# Altium schematic symbol library Oscillator.SchLib: 121 symbols (part 1 of 2)
Pins are listed as number, name and electrical type; pins without a type are passive.

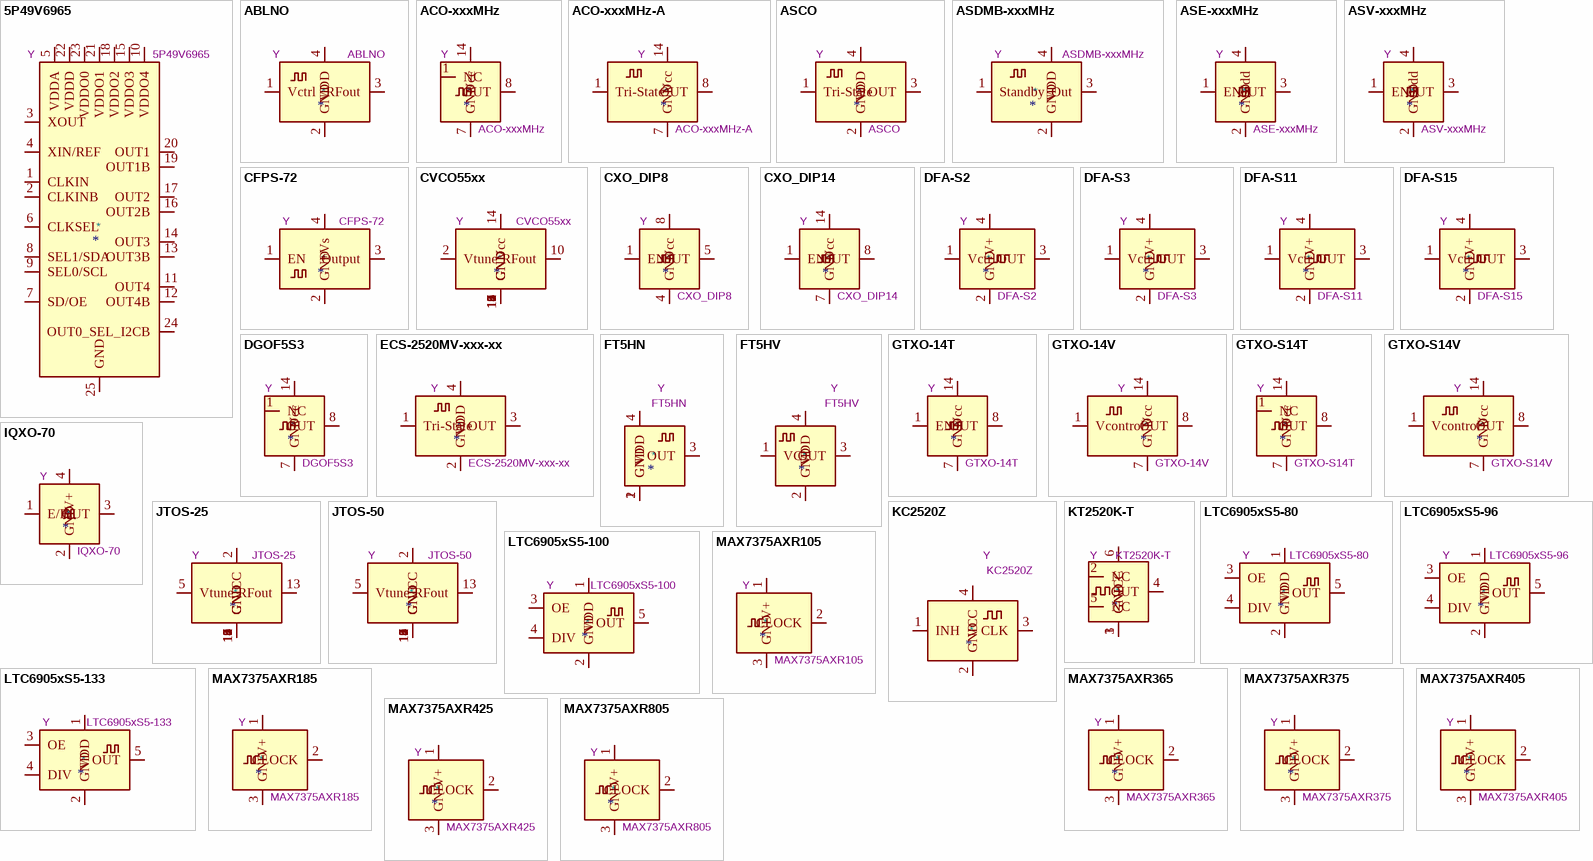
[diagram p0: symbols 5P49V6965 to MAX7375AXR805]

## 5P49V6965
designator *  value 5P49V6965  Reference: Y
Programmable Clock Generator, I2C interface, 1kHz-350MHz, QFN-24; ki_keywords: Low-noise PLL Reference Clock; ki_fp_filters: QFN*1EP*4x4mm*P0.5mm*; Footprint: Package_DFN_QFN:QFN-24-1EP_4x4mm_P0.5mm_EP2.8x2.8mm; Datasheet: https://www.renesas.com/us/en/document/dst/5p49v6965-datasheet; Description_: Programmable Clock Generator, I2C interface, 1kHz-350MHz, QFN-24
pins: 1 CLKIN, 2 CLKINB, 3 XOUT, 4 XIN/REF, 5 VDDA, 6 CLKSEL, 7 SD/OE, 8 SEL1/SDA, 9 SEL0/SCL, 10 VDDO4, 11 OUT4, 12 OUT4B, 13 OUT3B, 14 OUT3, 15 VDDO3, 16 OUT2B, 17 OUT2, 18 VDDO2, 19 OUT1B, 20 OUT1, 21 VDDO1, 22 VDDD, 23 VDDO0, 24 OUT0_SEL_I2CB, 25 GND

## ABLNO
designator *  value ABLNO  Reference: Y
LVCMOS Ultra Low Phase Noise XO / VCXO, Abracon ABLNO; ki_keywords: XO VCXO; ki_fp_filters: Oscillator*Abracon*ABLNO*; Footprint: Oscillator:Oscillator_SMD_Abracon_ABLNO; Datasheet: https://abracon.com/Precisiontiming/ABLNO.pdf; Description_: LVCMOS Ultra Low Phase Noise XO / VCXO, Abracon ABLNO
pins: 1 Vctrl, 2 GND, 3 RFout, 4 VDD

## ACO-xxxMHz
designator *  value ACO-xxxMHz  Reference: Y
HCMOS Crystal Clock Oscillator, DIP14-style metal package; ki_fp_filters: Oscillator*DIP*14*; Footprint: Oscillator:Oscillator_DIP-14; Datasheet: http://www.conwin.com/datasheets/cx/cx030.pdf; Description_: HCMOS Crystal Clock Oscillator, DIP14-style metal package; ki_keywords: Crystal Clock Oscillator
pins: 1 NC, 7 GND, 8 OUT, 14 Vcc

## ACO-xxxMHz-A
designator *  value ACO-xxxMHz-A  Reference: Y
HCMOS Crystal Clock Oscillator, DIP14-style metal package; ki_fp_filters: Oscillator*DIP*14*; Footprint: Oscillator:Oscillator_DIP-14; Datasheet: http://www.conwin.com/datasheets/cx/cx030.pdf; Description_: HCMOS Crystal Clock Oscillator, DIP14-style metal package; ki_keywords: Crystal Clock Oscillator
pins: 1 Tri-State, 7 GND, 8 OUT, 14 Vcc

## ASCO
designator *  value ASCO  Reference: Y
Crystal Clock Oscillator, Abracon ASCO; ki_fp_filters: Oscillator*Abracon*ASCO*1.6x1.2mm*; Footprint: Oscillator:Oscillator_SMD_Abracon_ASCO-4Pin_1.6x1.2mm; Datasheet: https://abracon.com/Oscillators/ASCO.pdf; Description_: Crystal Clock Oscillator, Abracon ASCO; ki_keywords: Crystal Clock Oscillator
pins: 1 Tri-State, 2 GND, 3 OUT, 4 VDD

## ASDMB-xxxMHz
designator *  value ASDMB-xxxMHz  Reference: Y
1.8-3.3V SMD Ultra Miniature Crystal Clock Oscillator, Abracon; ki_fp_filters: Oscillator*SMD*Abracon*ASDMB*2.5x2.0mm*; Footprint: Oscillator:Oscillator_SMD_Abracon_ASDMB-4Pin_2.5x2.0mm; Datasheet: https://abracon.com/Oscillators/ASDMB.pdf; Description_: 1.8-3.3V SMD Ultra Miniature Crystal Clock Oscillator, Abracon; ki_keywords: 1.8-3.3V SMD Ultra Miniature Crystal Clock Oscillator
pins: 1 Standby, 2 GND, 3 Out, 4 VDD

## ASE-xxxMHz
designator *  value ASE-xxxMHz  Reference: Y
3.3V CMOS SMD Crystal Clock Oscillator, Abracon; ki_fp_filters: Oscillator*SMD*Abracon*ASE*3.2x2.5mm*; Footprint: Oscillator:Oscillator_SMD_Abracon_ASE-4Pin_3.2x2.5mm; Datasheet: http://www.abracon.com/Oscillators/ASV.pdf; Description_: 3.3V CMOS SMD Crystal Clock Oscillator, Abracon; ki_keywords: 3.3V CMOS SMD Crystal Clock Oscillator
pins: 1 EN, 2 GND, 3 OUT, 4 Vdd

## ASV-xxxMHz
designator *  value ASV-xxxMHz  Reference: Y
3.3V HCMOS SMD Crystal Clock Oscillator, Abracon; ki_fp_filters: Oscillator*SMD*Abracon*ASV*7.0x5.1mm*; Footprint: Oscillator:Oscillator_SMD_Abracon_ASV-4Pin_7.0x5.1mm; Datasheet: http://www.abracon.com/Oscillators/ASV.pdf; Description_: 3.3V HCMOS SMD Crystal Clock Oscillator, Abracon; ki_keywords: 3.3V HCMOS SMD Crystal Clock Oscillator
pins: 1 EN, 2 GND, 3 OUT, 4 Vdd

## CFPS-72
designator *  value CFPS-72  Reference: Y
500kHz-100MHz 5V Crystal Oscillator, IQD CFPS-72; ki_keywords: XO; ki_fp_filters: Oscillator*SMD*IQD*IQXO70*7.5x5.0mm*; Footprint: Oscillator:Oscillator_SMD_IQD_IQXO70-4Pin_7.5x5.0mm; Datasheet: https://www.iqdfrequencyproducts.com/products/details/cfps-72-14-01.pdf; Description_: 500kHz-100MHz 5V Crystal Oscillator, IQD CFPS-72
pins: 1 EN, 2 GND, 3 Output, 4 +Vs

## CVCO55xx
designator *  value CVCO55xx  Reference: Y
Voltage Controlled Oscillator, Crystek, 0.50" SQ SMD; ki_keywords: VCXO VCO Crystek; ki_fp_filters: Mini?Circuits*CK605*; Footprint: RF_Mini-Circuits:Mini-Circuits_CK605_LandPatternPL-012; Datasheet: https://www.crystek.com/home/vco/cvco55.aspx; Description_: Voltage Controlled Oscillator, Crystek, 0.50" SQ SMD
pins: 1 GND, 2 Vtune, 3 GND, 4 GND, 5 GND, 6 GND, 7 GND, 8 GND, 9 GND, 10 RFout, 11 GND, 12 GND, 13 GND, 14 Vcc, 15 GND, 16 GND

## CXO_DIP8
designator *  value CXO_DIP8  Reference: Y
Crystal Clock Oscillator, DIP8-style metal package; ki_fp_filters: Oscillator*DIP*8*; Footprint: Oscillator:Oscillator_DIP-8; Datasheet: http://cdn-reichelt.de/documents/datenblatt/B400/OSZI.pdf; Description_: Crystal Clock Oscillator, DIP8-style metal package; ki_keywords: Crystal Clock Oscillator
pins: 1 EN, 4 GND, 5 OUT, 8 Vcc

## CXO_DIP14
designator *  value CXO_DIP14  Reference: Y
Crystal Clock Oscillator, DIP14-style metal package; ki_fp_filters: Oscillator*DIP*14*; Footprint: Oscillator:Oscillator_DIP-14; Datasheet: http://cdn-reichelt.de/documents/datenblatt/B400/OSZI.pdf; Description_: Crystal Clock Oscillator, DIP14-style metal package; ki_keywords: Crystal Clock Oscillator
pins: 1 EN, 7 GND, 8 OUT, 14 Vcc

## DFA-S2
designator *  value DFA-S2  Reference: Y
Temperature compensated Crystal Clock Oscillator; ki_fp_filters: Oscillator*SMD*Fordahl*DFAS2*7.3x5.1mm*; Footprint: Oscillator:Oscillator_SMD_Fordahl_DFAS2-4Pin_7.3x5.1mm; Datasheet: http://www.metatech.com.hk/product/fordahl/pdf/2002%20TCXO%20Page%2043-58.pdf; Description_: Temperature compensated Crystal Clock Oscillator; ki_keywords: Temperature compensated Crystal Clock Oscillator
pins: 1 Vctrl, 2 GND, 3 OUT, 4 V+

## DFA-S3
designator *  value DFA-S3  Reference: Y
Temperature compensated Crystal Clock Oscillator; ki_fp_filters: Oscillator*SMD*Fordahl*DFAS3*9.1x7.2mm*; Footprint: Oscillator:Oscillator_SMD_Fordahl_DFAS3-4Pin_9.1x7.2mm; Datasheet: http://www.metatech.com.hk/product/fordahl/pdf/2002%20TCXO%20Page%2043-58.pdf; Description_: Temperature compensated Crystal Clock Oscillator; ki_keywords: Temperature compensated Crystal Clock Oscillator
pins: 1 Vctrl, 2 GND, 3 OUT, 4 V+

## DFA-S11
designator *  value DFA-S11  Reference: Y
Temperature compensated Crystal Clock Oscillator; ki_fp_filters: Oscillator*SMD*Fordahl*DFAS11*7.0x5.0mm*; Footprint: Oscillator:Oscillator_SMD_Fordahl_DFAS11-4Pin_7.0x5.0mm; Datasheet: http://www.metatech.com.hk/product/fordahl/pdf/2002%20TCXO%20Page%2043-58.pdf; Description_: Temperature compensated Crystal Clock Oscillator; ki_keywords: Temperature compensated Crystal Clock Oscillator
pins: 1 Vctrl, 2 GND, 3 OUT, 4 V+

## DFA-S15
designator *  value DFA-S15  Reference: Y
Temperature compensated Crystal Clock Oscillator; ki_fp_filters: Oscillator*SMD*Fordahl*DFAS15*5.0x3.2mm*; Footprint: Oscillator:Oscillator_SMD_Fordahl_DFAS15-4Pin_5.0x3.2mm; Datasheet: http://www.metatech.com.hk/product/fordahl/pdf/2002%20TCXO%20Page%2043-58.pdf; Description_: Temperature compensated Crystal Clock Oscillator; ki_keywords: Temperature compensated Crystal Clock Oscillator
pins: 1 Vctrl, 2 GND, 3 OUT, 4 V+

## DGOF5S3
designator *  value DGOF5S3  Reference: Y
HCMOS Crystal Clock Oscillator, DIP14-style metal package; ki_fp_filters: Oscillator*DIP*14*; Footprint: Oscillator:Oscillator_DIP-14; Datasheet: http://www.conwin.com/datasheets/cx/cx030.pdf; Description_: HCMOS Crystal Clock Oscillator, DIP14-style metal package; ki_keywords: Crystal Clock Oscillator
pins: 1 NC, 7 GND, 8 OUT, 14 Vcc

## ECS-2520MV-xxx-xx
designator *  value ECS-2520MV-xxx-xx  Reference: Y
HCMOS Crystal Clock Oscillator, 2.5x2.0 mm SMD; ki_keywords: Crystal Clock Oscillator ECS SMD; ki_fp_filters: Oscillator*SMD*ECS*2520MV*2.5x2.0mm*; Footprint: Oscillator:Oscillator_SMD_ECS_2520MV-xxx-xx-4Pin_2.5x2.0mm; Datasheet: https://www.ecsxtal.com/store/pdf/ECS-2520MV.pdf; Description_: HCMOS Crystal Clock Oscillator, 2.5x2.0 mm SMD
pins: 1 Tri-State, 2 GND, 3 OUT, 4 VDD

## FT5HN
designator *  value FT5HN  Reference: Y
HCMOS temperature compensated oscillator; ki_keywords: TXCO; ki_fp_filters: Oscillator*SMD*Fox*FT5H*5.0x3.2mm*; Footprint: Oscillator:Oscillator_SMD_Fox_FT5H_5.0x3.2mm; Datasheet: https://foxonline.com/wp-content/uploads/pdfs/T5HN_T5HV.pdf; Description_: HCMOS temperature compensated oscillator
pins: 1 GND, 2 GND, 3 OUT, 4 VDD

## FT5HV
designator *  value FT5HV  Reference: Y
HCMOS temperature compensated voltage controlled oscillator; ki_keywords: TXCO VCTCXO; ki_fp_filters: Oscillator*SMD*Fox*FT5H*5.0x3.2mm*; Footprint: Oscillator:Oscillator_SMD_Fox_FT5H_5.0x3.2mm; Datasheet: https://foxonline.com/wp-content/uploads/pdfs/T5HN_T5HV.pdf; Description_: HCMOS temperature compensated voltage controlled oscillator
pins: 1 VC, 2 GND, 3 OUT, 4 VDD

## GTXO-14T
designator *  value GTXO-14T  Reference: Y
Crystal Clock Oscillator, DIP14-style metal package; ki_fp_filters: Oscillator*DIP*14*; Footprint: Oscillator:Oscillator_DIP-14; Datasheet: http://www.golledge.com/pdf/products/tcxos/gtxo14.pdf; Description_: Crystal Clock Oscillator, DIP14-style metal package; ki_keywords: Crystal Clock Oscillator
pins: 1 EN, 7 GND, 8 OUT, 14 Vcc

## GTXO-14V
designator *  value GTXO-14V  Reference: Y
Voltage-Controlled Crystal Clock Oscillator, DIP14-style metal package; ki_fp_filters: Oscillator*DIP*14*; Footprint: Oscillator:Oscillator_DIP-14; Datasheet: http://www.golledge.com/pdf/products/tcxos/gtxo14.pdf; Description_: Voltage-Controlled Crystal Clock Oscillator, DIP14-style metal package; ki_keywords: Crystal Clock Oscillator
pins: 1 Vcontrol, 7 GND, 8 OUT, 14 Vcc

## GTXO-S14T
designator *  value GTXO-S14T  Reference: Y
3.3 & 5V Stratum 3 Sinewave TCXO, DIP14-style metal package; ki_keywords: Crystal Clock Oscillator; ki_fp_filters: Oscillator*DIP*14*; Footprint: Oscillator:Oscillator_DIP-14; Datasheet: http://www.golledge.com/pdf/products/tcxos/gtxos14.pdf; Description_: 3.3 & 5V Stratum 3 Sinewave TCXO, DIP14-style metal package
pins: 1 NC, 7 GND, 8 OUT, 14 Vcc

## GTXO-S14V
designator *  value GTXO-S14V  Reference: Y
3.3 & 5V Stratum 3 Sinewave TCXO, DIP14-style metal package; ki_keywords: Crystal Clock Oscillator; ki_fp_filters: Oscillator*DIP*14*; Footprint: Oscillator:Oscillator_DIP-14; Datasheet: http://www.golledge.com/pdf/products/tcxos/gtxos14.pdf; Description_: 3.3 & 5V Stratum 3 Sinewave TCXO, DIP14-style metal package
pins: 1 Vcontrol, 7 GND, 8 OUT, 14 Vcc

## IQXO-70
designator *  value IQXO-70  Reference: Y
Crystal Clock Oscillator, SMD package 7.5x5.0mm²; ki_fp_filters: Oscillator*SMD*IQD*IQXO70*7.5x5.0mm*; Footprint: Oscillator:Oscillator_SMD_IQD_IQXO70-4Pin_7.5x5.0mm; Datasheet: http://www.iqdfrequencyproducts.com/products/details/iqxo-70-11-30.pdf; Description_: Crystal Clock Oscillator, SMD package 7.5x5.0mm²; ki_keywords: Crystal Clock Oscillator
pins: 1 E/B, 2 GND, 3 OUT, 4 V+

## JTOS-25
designator *  value JTOS-25  Reference: Y
Voltage Controlled Oscillator, 12.5 to 25 MHz, Mini-Circuits BK377; ki_keywords: VCXO; ki_fp_filters: Mini?Circuits*BK377*; Footprint: RF_Mini-Circuits:Mini-Circuits_BK377_LandPatternPL-005; Datasheet: https://www.minicircuits.com/pdfs/JTOS-25+.pdf; Description_: Voltage Controlled Oscillator, 12.5 to 25 MHz, Mini-Circuits BK377
pins: 1 GND, 2 VCC, 3 GND, 4 GND, 5 Vtune, 6 GND, 7 GND, 8 GND, 9 GND, 10 GND, 11 GND, 12 GND, 13 RFout, 14 GND

## JTOS-50
designator *  value JTOS-50  Reference: Y
Voltage Controlled Oscillator, 25 to 47 MHz, Mini-Circuits BK377; ki_keywords: VCXO; ki_fp_filters: Mini?Circuits*BK377*; Footprint: RF_Mini-Circuits:Mini-Circuits_BK377_LandPatternPL-005; Datasheet: https://www.minicircuits.com/pdfs/JTOS-50+.pdf; Description_: Voltage Controlled Oscillator, 25 to 47 MHz, Mini-Circuits BK377
pins: 1 GND, 2 VCC, 3 GND, 4 GND, 5 Vtune, 6 GND, 7 GND, 8 GND, 9 GND, 10 GND, 11 GND, 12 GND, 13 RFout, 14 GND

## KC2520Z
designator *  value KC2520Z  Reference: Y
1.8432MHz ~ 125MHz Crystal Oscillator; ki_keywords: xo; ki_fp_filters: Oscillator*SMD*Kyocera*KC2520Z*2.5x2.0mm*; Footprint: Oscillator:Oscillator_SMD_Kyocera_KC2520Z-4Pin_2.5x2.0mm; Datasheet: https://global.kyocera.com/prdct/electro/product/pdf/clock_z_xz_e.pdf; Description_: 1.8432MHz ~ 125MHz Crystal Oscillator
pins: 1 INH, 2 GND, 3 CLK, 4 VCC

## KT2520K-T
designator *  value KT2520K-T  Reference: Y
10-60MHz Temperature Compensated Crystal Oscillator, Kyocera 2520; ki_keywords: tcxo; ki_fp_filters: Oscillator*SMD*Kyocera*2.5x2.0mm*; Footprint: Oscillator:Oscillator_SMD_Kyocera_2520-6Pin_2.5x2.0mm; Datasheet: https://global.kyocera.com/prdct/electro/product/pdf/kt2520_e.pdf; Description_: 10-60MHz Temperature Compensated Crystal Oscillator, Kyocera 2520
pins: 1 GND, 2 NC, 3 GND, 4 OUT, 5 NC, 6 VCC

## LTC6905xS5-80
designator *  value LTC6905xS5-80  Reference: Y
2.7-5.5V 80MHz Precision Fixed Frequency Silicon Oscillator, TSOT-23-5; ki_keywords: oscillator fixed frequency divider silicon; ki_fp_filters: TSOT?23?5*; Footprint: Package_TO_SOT_SMD:TSOT-23-5; Datasheet: https://www.analog.com/media/en/technical-documentation/data-sheets/6905xfa.pdf; Description_: 2.7-5.5V 80MHz Precision Fixed Frequency Silicon Oscillator, TSOT-23-5
pins: 1 VDD, 2 GND, 3 OE, 4 DIV, 5 OUT

## LTC6905xS5-96
designator *  value LTC6905xS5-96  Reference: Y
2.7-5.5V 96MHz Precision Fixed Frequency Silicon Oscillator, TSOT-23-5; ki_keywords: oscillator fixed frequency divider silicon; ki_fp_filters: TSOT?23?5*; Footprint: Package_TO_SOT_SMD:TSOT-23-5; Datasheet: https://www.analog.com/media/en/technical-documentation/data-sheets/6905xfa.pdf; Description_: 2.7-5.5V 96MHz Precision Fixed Frequency Silicon Oscillator, TSOT-23-5
pins: 1 VDD, 2 GND, 3 OE, 4 DIV, 5 OUT

## LTC6905xS5-100
designator *  value LTC6905xS5-100  Reference: Y
2.7-5.5V 100MHz Precision Fixed Frequency Silicon Oscillator, TSOT-23-5; ki_keywords: oscillator fixed frequency divider silicon; ki_fp_filters: TSOT?23?5*; Footprint: Package_TO_SOT_SMD:TSOT-23-5; Datasheet: https://www.analog.com/media/en/technical-documentation/data-sheets/6905xfa.pdf; Description_: 2.7-5.5V 100MHz Precision Fixed Frequency Silicon Oscillator, TSOT-23-5
pins: 1 VDD, 2 GND, 3 OE, 4 DIV, 5 OUT

## LTC6905xS5-133
designator *  value LTC6905xS5-133  Reference: Y
2.7-5.5V 133MHz Precision Fixed Frequency Silicon Oscillator, TSOT-23-5; ki_keywords: oscillator fixed frequency divider silicon; ki_fp_filters: TSOT?23?5*; Footprint: Package_TO_SOT_SMD:TSOT-23-5; Datasheet: https://www.analog.com/media/en/technical-documentation/data-sheets/6905xfa.pdf; Description_: 2.7-5.5V 133MHz Precision Fixed Frequency Silicon Oscillator, TSOT-23-5
pins: 1 VDD, 2 GND, 3 OE, 4 DIV, 5 OUT

## MAX7375AXR105
designator *  value MAX7375AXR105  Reference: Y
Silicon Clock Oscillator 1MHz, SC-70-3; ki_keywords: Silicon Clock Oscillator 1MHz 1000kHz; ki_fp_filters: *SC?70*; Footprint: Package_TO_SOT_SMD:SOT-323_SC-70; Datasheet: https://datasheets.maximintegrated.com/en/ds/MAX7375.pdf; Description_: Silicon Clock Oscillator 1MHz, SC-70-3
pins: 1 V+, 2 CLOCK, 3 GND

## MAX7375AXR185
designator *  value MAX7375AXR185  Reference: Y
Silicon Clock Oscillator 1.84MHz, SC-70-3; ki_keywords: Silicon Clock Oscillator 1,84MHz 1840kHz; ki_fp_filters: *SC?70*; Footprint: Package_TO_SOT_SMD:SOT-323_SC-70; Datasheet: https://datasheets.maximintegrated.com/en/ds/MAX7375.pdf; Description_: Silicon Clock Oscillator 1.84MHz, SC-70-3
pins: 1 V+, 2 CLOCK, 3 GND

## MAX7375AXR365
designator *  value MAX7375AXR365  Reference: Y
Silicon Clock Oscillator 3.58MHz, SC-70-3; ki_keywords: Silicon Clock Oscillator 3.58MHz 3580kHz; ki_fp_filters: *SC?70*; Footprint: Package_TO_SOT_SMD:SOT-323_SC-70; Datasheet: https://datasheets.maximintegrated.com/en/ds/MAX7375.pdf; Description_: Silicon Clock Oscillator 3.58MHz, SC-70-3
pins: 1 V+, 2 CLOCK, 3 GND

## MAX7375AXR375
designator *  value MAX7375AXR375  Reference: Y
Silicon Clock Oscillator 3.69MHz, SC-70-3; ki_keywords: Silicon Clock Oscillator 3.69MHz 3690kHz; ki_fp_filters: *SC?70*; Footprint: Package_TO_SOT_SMD:SOT-323_SC-70; Datasheet: https://datasheets.maximintegrated.com/en/ds/MAX7375.pdf; Description_: Silicon Clock Oscillator 3.69MHz, SC-70-3
pins: 1 V+, 2 CLOCK, 3 GND

## MAX7375AXR405
designator *  value MAX7375AXR405  Reference: Y
Silicon Clock Oscillator 4MHz, SC-70-3; ki_keywords: Silicon Clock Oscillator 4MHz 4000kHz; ki_fp_filters: *SC?70*; Footprint: Package_TO_SOT_SMD:SOT-323_SC-70; Datasheet: https://datasheets.maximintegrated.com/en/ds/MAX7375.pdf; Description_: Silicon Clock Oscillator 4MHz, SC-70-3
pins: 1 V+, 2 CLOCK, 3 GND

## MAX7375AXR425
designator *  value MAX7375AXR425  Reference: Y
Silicon Clock Oscillator 4.19MHz, SC-70-3; ki_keywords: Silicon Clock Oscillator 4.19MHz 4190kHz; ki_fp_filters: *SC?70*; Footprint: Package_TO_SOT_SMD:SOT-323_SC-70; Datasheet: https://datasheets.maximintegrated.com/en/ds/MAX7375.pdf; Description_: Silicon Clock Oscillator 4.19MHz, SC-70-3
pins: 1 V+, 2 CLOCK, 3 GND

## MAX7375AXR805
designator *  value MAX7375AXR805  Reference: Y
Silicon Clock Oscillator 8MHz, SC-70-3; ki_keywords: Silicon Clock Oscillator 8MHz 8000kHz; ki_fp_filters: *SC?70*; Footprint: Package_TO_SOT_SMD:SOT-323_SC-70; Datasheet: https://datasheets.maximintegrated.com/en/ds/MAX7375.pdf; Description_: Silicon Clock Oscillator 8MHz, SC-70-3
pins: 1 V+, 2 CLOCK, 3 GND

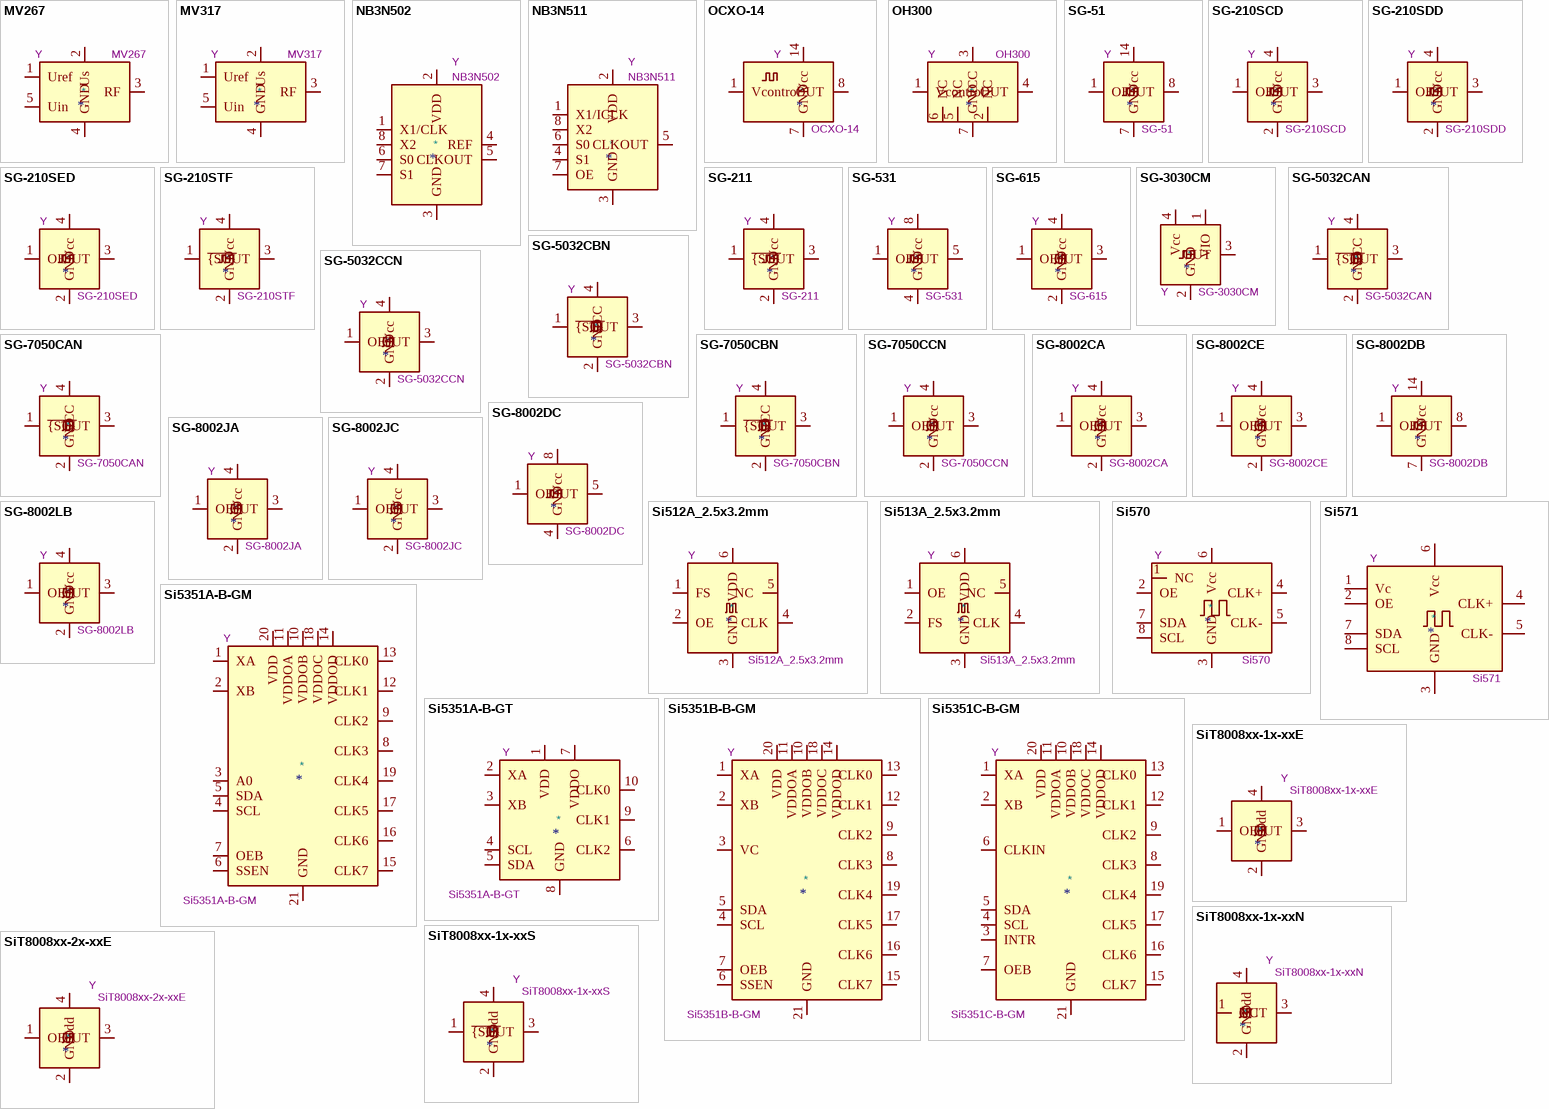
[diagram p1: symbols MV267 to SiT8008xx-2x-xxE]

## MV267
designator *  value MV267  Reference: Y
5/10 MHz Low Phase-Noise Precision OCXO, Morion MV267; ki_fp_filters: Oscillator*OCXO*Morion*MV267*; Footprint: Oscillator:Oscillator_OCXO_Morion_MV267; Datasheet: http://www.morion.com.ru/catalog_pdf/MV267.pdf; Description_: 5/10 MHz Low Phase-Noise Precision OCXO, Morion MV267; ki_keywords: OCXO
pins: 1 Uref, 2 Us, 3 RF, 4 GND, 5 Uin

## MV317
designator *  value MV317  Reference: Y
60, 80, 100, 120 & 122.76 MHz OCXO, Morion MV317; ki_fp_filters: Oscillator*OCXO*Morion*MV317*; Footprint: Oscillator:Oscillator_OCXO_Morion_MV317; Datasheet: https://www.morion-us.com/catalog_pdf/mv317.pdf; Description_: 60, 80, 100, 120 & 122.76 MHz OCXO, Morion MV317; ki_keywords: OCXO
pins: 1 Uref, 2 Us, 3 RF, 4 GND, 5 Uin

## NB3N502
designator *  value NB3N502  Reference: Y
3.3V / 5.0V 14 MHz to 190 MHz PLL Clock Multiplier, SOIC-8; ki_keywords: oscillator clock multiplier PLL; ki_fp_filters: SOIC*3.9x4.9mm*P1.27mm*; Footprint: Package_SO:SOIC-8_3.9x4.9mm_P1.27mm; Datasheet: http://www.onsemi.com/pub/Collateral/NB3N502-D.PDF; Description_: 3.3V / 5.0V 14 MHz to 190 MHz PLL Clock Multiplier, SOIC-8
pins: 1 X1/CLK, 2 VDD, 3 GND, 4 REF, 5 CLKOUT, 6 S0, 7 S1, 8 X2

## NB3N511
designator *  value NB3N511  Reference: Y
3.3V / 5.0V 14 MHz to 200 MHz PLL Clock Multiplier, SOIC-8; ki_keywords: oscillator clock multiplier PLL; ki_fp_filters: SOIC*3.9x4.9mm*P1.27mm*; Footprint: Package_SO:SOIC-8_3.9x4.9mm_P1.27mm; Datasheet: http://www.onsemi.com/pub/Collateral/NB3N511-D.PDF; Description_: 3.3V / 5.0V 14 MHz to 200 MHz PLL Clock Multiplier, SOIC-8
pins: 1 X1/ICLK, 2 VDD, 3 GND, 4 S1, 5 CLKOUT, 6 S0, 7 OE, 8 X2

## OCXO-14
designator *  value OCXO-14  Reference: Y
Voltage-Controlled Crystal Clock Oscillator, DIP14-style metal package; ki_fp_filters: Oscillator*DIP*14*; Footprint: Oscillator:Oscillator_DIP-14; Datasheet: http://www.petermann-technik.de/fileadmin/petermann/pdf/crystal-oscillators/OCXO-14_PETERMANN-TECHNIK.pdf; Description_: Voltage-Controlled Crystal Clock Oscillator, DIP14-style metal package; ki_keywords: Crystal Clock Oscillator
pins: 1 Vcontrol, 7 GND, 8 OUT, 14 Vcc

## OH300
designator *  value OH300  Reference: Y
100MHz Sinewave output OCXO, low phase-noise, high stability, Connor-Winfield OH300; ki_fp_filters: Oscillator*SMD*OH300*; Footprint: Oscillator:Oscillator_SMD_OCXO_ConnorWinfield_OH300; Datasheet: http://www.conwin.com/datasheets/cx/cx282.pdf; Description_: 100MHz Sinewave output OCXO, low phase-noise, high stability, Connor-Winfield OH300; ki_keywords: OCXO
pins: 1 Vcontrol, 2 NC, 3 VCC, 4 OUT, 5 NC, 6 NC, 7 GND

## SG-51
designator *  value SG-51  Reference: Y
CMOS Crystal Clock Oscillator, DIP14-style plastic package; ki_fp_filters: Oscillator*SeikoEpson*SG?8002DB*; Footprint: Oscillator:Oscillator_SeikoEpson_SG-8002DB; Datasheet: https://support.epson.biz/td/api/doc_check.php?mode=dl&lang=en&Parts=SG-51P; Description_: CMOS Crystal Clock Oscillator, DIP14-style plastic package; ki_keywords: Crystal Clock Oscillator
pins: 1 OE, 7 GND, 8 OUT, 14 Vcc

## SG-210SCD
designator *  value SG-210SCD  Reference: Y
Crystal Oscillator Low Profile / High Stability SPXO; ki_keywords: Crystal Clock Oscillator; ki_fp_filters: Oscillator*SMD*SeikoEpson*SG210*2.5x2.0mm*; Footprint: Oscillator:Oscillator_SMD_SeikoEpson_SG210-4Pin_2.5x2.0mm; Datasheet: https://support.epson.biz/td/api/doc_check.php?mode=dl&lang=en&Parts=SG-210SED; Description_: Crystal Oscillator Low Profile / High Stability SPXO
pins: 1 OE, 2 GND, 3 OUT, 4 Vcc

## SG-210SDD
designator *  value SG-210SDD  Reference: Y
Crystal Oscillator Low Profile / High Stability SPXO; ki_keywords: Crystal Clock Oscillator; ki_fp_filters: Oscillator*SMD*SeikoEpson*SG210*2.5x2.0mm*; Footprint: Oscillator:Oscillator_SMD_SeikoEpson_SG210-4Pin_2.5x2.0mm; Datasheet: https://support.epson.biz/td/api/doc_check.php?mode=dl&lang=en&Parts=SG-210SED; Description_: Crystal Oscillator Low Profile / High Stability SPXO
pins: 1 OE, 2 GND, 3 OUT, 4 Vcc

## SG-210SED
designator *  value SG-210SED  Reference: Y
Crystal Oscillator Low Profile / High Stability SPXO; ki_keywords: Crystal Clock Oscillator; ki_fp_filters: Oscillator*SMD*SeikoEpson*SG210*2.5x2.0mm*; Footprint: Oscillator:Oscillator_SMD_SeikoEpson_SG210-4Pin_2.5x2.0mm; Datasheet: https://support.epson.biz/td/api/doc_check.php?mode=dl&lang=en&Parts=SG-210SED; Description_: Crystal Oscillator Low Profile / High Stability SPXO
pins: 1 OE, 2 GND, 3 OUT, 4 Vcc

## SG-210STF
designator *  value SG-210STF  Reference: Y
CMOS Crystal Oscillator SPXO; ki_keywords: Crystal Clock Oscillator; ki_fp_filters: Oscillator*SMD*SeikoEpson*SG210*2.5x2.0mm*; Footprint: Oscillator:Oscillator_SMD_SeikoEpson_SG210-4Pin_2.5x2.0mm; Datasheet: https://support.epson.biz/td/api/doc_check.php?mode=dl&lang=en&Parts=SG-210STF; Description_: CMOS Crystal Oscillator SPXO
pins: 1 ~{{ST}}, 2 GND, 3 OUT, 4 Vcc

## SG-211
designator *  value SG-211  Reference: Y
CMOS Crystal Oscillator SPXO; ki_keywords: Crystal Clock Oscillator; ki_fp_filters: Oscillator*SMD*SeikoEpson*SG210*2.5x2.0mm*; Footprint: Oscillator:Oscillator_SMD_SeikoEpson_SG210-4Pin_2.5x2.0mm; Datasheet: https://support.epson.biz/td/api/doc_check.php?mode=dl&lang=en&Parts=SG-211SEE; Description_: CMOS Crystal Oscillator SPXO
pins: 1 ~{{ST}}, 2 GND, 3 OUT, 4 Vcc

## SG-531
designator *  value SG-531  Reference: Y
CMOS Crystal Clock Oscillator, DIP8-style plastic package; ki_fp_filters: Oscillator*SeikoEpson*SG?8002DC*; Footprint: Oscillator:Oscillator_SeikoEpson_SG-8002DC; Datasheet: https://support.epson.biz/td/api/doc_check.php?mode=dl&lang=en&Parts=SG-51P; Description_: CMOS Crystal Clock Oscillator, DIP8-style plastic package; ki_keywords: Crystal Clock Oscillator
pins: 1 OE, 4 GND, 5 OUT, 8 Vcc

## SG-615
designator *  value SG-615  Reference: Y
CMOS Clock Oscillator; ki_keywords: Crystal Clock Oscillator; ki_fp_filters: Oscillator*SMD*SeikoEpson*SG8002JA*14.0x8.7mm*; Footprint: Oscillator:Oscillator_SMD_SeikoEpson_SG8002JA-4Pin_14.0x8.7mm; Datasheet: https://support.epson.biz/td/api/doc_check.php?mode=dl&lang=en&Parts=SG-51P; Description_: CMOS Clock Oscillator
pins: 1 OE, 2 GND, 3 OUT, 4 Vcc

## SG-3030CM
designator *  value SG-3030CM  Reference: Y
32.768kHz Crystal Oscillator (SPXO); ki_keywords: Crystal Clock Oscillator; ki_fp_filters: Oscillator*SMD*SeikoEpson*SG3030CM*; Footprint: Oscillator:Oscillator_SMD_SeikoEpson_SG3030CM; Datasheet: https://support.epson.biz/td/api/doc_check.php?mode=dl&lang=en&Parts=SG-3030CM; Description_: 32.768kHz Crystal Oscillator (SPXO)
pins: 1 VIO, 2 GND, 3 OUT, 4 Vcc

## SG-5032CAN
designator *  value SG-5032CAN  Reference: Y
CMOS Clock Oscillator 1 to 75 MHz; ki_keywords: Crystal Clock Oscillator; ki_fp_filters: Oscillator*SMD*SeikoEpson*SG8002LB*5.0x3.2mm*; Footprint: Oscillator:Oscillator_SMD_SeikoEpson_SG8002LB-4Pin_5.0x3.2mm; Datasheet: https://support.epson.biz/td/api/doc_check.php?dl=brief_SG5032CAN&lang=en; Description_: CMOS Clock Oscillator 1 to 75 MHz
pins: 1 ~{{ST}}, 2 GND, 3 OUT, 4 VCC

## SG-5032CBN
designator *  value SG-5032CBN  Reference: Y
CMOS Clock Oscillator 80 to 170 MHz; ki_keywords: Crystal Clock Oscillator; ki_fp_filters: Oscillator*SMD*SeikoEpson*SG8002LB*5.0x3.2mm*; Footprint: Oscillator:Oscillator_SMD_SeikoEpson_SG8002LB-4Pin_5.0x3.2mm; Datasheet: https://support.epson.biz/td/api/doc_check.php?dl=brief_SG5032CBN&lang=en; Description_: CMOS Clock Oscillator 80 to 170 MHz
pins: 1 ~{{ST}}, 2 GND, 3 OUT, 4 VCC

## SG-5032CCN
designator *  value SG-5032CCN  Reference: Y
CMOS Clock Oscillator 2.5 to 50 MHz; ki_keywords: Crystal Clock Oscillator; ki_fp_filters: Oscillator*SMD*SeikoEpson*SG8002LB*5.0x3.2mm*; Footprint: Oscillator:Oscillator_SMD_SeikoEpson_SG8002LB-4Pin_5.0x3.2mm; Datasheet: https://support.epson.biz/td/api/doc_check.php?dl=brief_SG5032CCN&lang=en; Description_: CMOS Clock Oscillator 2.5 to 50 MHz
pins: 1 OE, 2 GND, 3 OUT, 4 Vcc

## SG-7050CAN
designator *  value SG-7050CAN  Reference: Y
CMOS Clock Oscillator 1 to 75 MHz; ki_keywords: Crystal Clock Oscillator; ki_fp_filters: Oscillator*SMD*SeikoEpson*SG8002CA*7.0x5.0mm*; Footprint: Oscillator:Oscillator_SMD_SeikoEpson_SG8002CA-4Pin_7.0x5.0mm; Datasheet: https://support.epson.biz/td/api/doc_check.php?dl=brief_SG7050CAN&lang=en; Description_: CMOS Clock Oscillator 1 to 75 MHz
pins: 1 ~{{ST}}, 2 GND, 3 OUT, 4 VCC

## SG-7050CBN
designator *  value SG-7050CBN  Reference: Y
CMOS Clock Oscillator 80 to 170 MHz; ki_keywords: Crystal Clock Oscillator; ki_fp_filters: Oscillator*SMD*SeikoEpson*SG8002CA*7.0x5.0mm*; Footprint: Oscillator:Oscillator_SMD_SeikoEpson_SG8002CA-4Pin_7.0x5.0mm; Datasheet: https://support.epson.biz/td/api/doc_check.php?dl=brief_SG7050CBN&lang=en; Description_: CMOS Clock Oscillator 80 to 170 MHz
pins: 1 ~{{ST}}, 2 GND, 3 OUT, 4 VCC

## SG-7050CCN
designator *  value SG-7050CCN  Reference: Y
CMOS Clock Oscillator 2.5 to 50 MHz; ki_keywords: Crystal Clock Oscillator; ki_fp_filters: Oscillator*SMD*SeikoEpson*SG8002CA*7.0x5.0mm*; Footprint: Oscillator:Oscillator_SMD_SeikoEpson_SG8002CA-4Pin_7.0x5.0mm; Datasheet: https://support.epson.biz/td/api/doc_check.php?dl=brief_SG7050CAN&lang=en; Description_: CMOS Clock Oscillator 2.5 to 50 MHz
pins: 1 OE, 2 GND, 3 OUT, 4 Vcc

## SG-8002CA
designator *  value SG-8002CA  Reference: Y
CMOS Clock Oscillator 1 to 125 MHz; ki_keywords: Crystal Clock Oscillator; ki_fp_filters: Oscillator*SMD*SeikoEpson*SG8002CA*7.0x5.0mm*; Footprint: Oscillator:Oscillator_SMD_SeikoEpson_SG8002CA-4Pin_7.0x5.0mm; Datasheet: https://support.epson.biz/td/api/doc_check.php?mode=dl&lang=en&Parts=SG-8002DC; Description_: CMOS Clock Oscillator 1 to 125 MHz
pins: 1 OE, 2 GND, 3 OUT, 4 Vcc

## SG-8002CE
designator *  value SG-8002CE  Reference: Y
CMOS Clock Oscillator; ki_keywords: Crystal Clock Oscillator; ki_fp_filters: Oscillator*SMD*SeikoEpson*SG8002CE*3.2x2.5mm*; Footprint: Oscillator:Oscillator_SMD_SeikoEpson_SG8002CE-4Pin_3.2x2.5mm; Datasheet: https://support.epson.biz/td/api/doc_check.php?mode=dl&lang=en&Parts=SG-8002DC; Description_: CMOS Clock Oscillator
pins: 1 OE, 2 GND, 3 OUT, 4 Vcc

## SG-8002DB
designator *  value SG-8002DB  Reference: Y
Crystal Clock Oscillator, DIP14-style plastic package; ki_fp_filters: Oscillator*SeikoEpson*SG?8002DB*; Footprint: Oscillator:Oscillator_SeikoEpson_SG-8002DB; Datasheet: https://support.epson.biz/td/api/doc_check.php?dl=brief_SG-8002DB&lang=en; Description_: Crystal Clock Oscillator, DIP14-style plastic package; ki_keywords: Crystal Clock Oscillator
pins: 1 OE, 7 GND, 8 OUT, 14 Vcc

## SG-8002DC
designator *  value SG-8002DC  Reference: Y
Crystal Clock Oscillator, DIP8-style plastic package; ki_fp_filters: Oscillator*SeikoEpson*SG?8002DC*; Footprint: Oscillator:Oscillator_SeikoEpson_SG-8002DC; Datasheet: https://support.epson.biz/td/api/doc_check.php?mode=dl&lang=en&Parts=SG-8002DC; Description_: Crystal Clock Oscillator, DIP8-style plastic package; ki_keywords: Crystal Clock Oscillator
pins: 1 OE, 4 GND, 5 OUT, 8 Vcc

## SG-8002JA
designator *  value SG-8002JA  Reference: Y
CMOS Clock Oscillator; ki_keywords: Crystal Clock Oscillator; ki_fp_filters: Oscillator*SMD*SeikoEpson*SG8002JA*14.0x8.7mm*; Footprint: Oscillator:Oscillator_SMD_SeikoEpson_SG8002JA-4Pin_14.0x8.7mm; Datasheet: https://support.epson.biz/td/api/doc_check.php?mode=dl&lang=en&Parts=SG-8002DC; Description_: CMOS Clock Oscillator
pins: 1 OE, 2 GND, 3 OUT, 4 Vcc

## SG-8002JC
designator *  value SG-8002JC  Reference: Y
CMOS Clock Oscillator; ki_keywords: Crystal Clock Oscillator; ki_fp_filters: Oscillator*SMD*SeikoEpson*SG8002JC*10.5x5.0mm*; Footprint: Oscillator:Oscillator_SMD_SeikoEpson_SG8002JC-4Pin_10.5x5.0mm; Datasheet: https://support.epson.biz/td/api/doc_check.php?mode=dl&lang=en&Parts=SG-8002DC; Description_: CMOS Clock Oscillator
pins: 1 OE, 2 GND, 3 OUT, 4 Vcc

## SG-8002LB
designator *  value SG-8002LB  Reference: Y
CMOS Clock Oscillator 1 to 125 MHz; ki_keywords: Crystal Clock Oscillator; ki_fp_filters: Oscillator*SMD*SeikoEpson*SG8002LB*5.0x3.2mm*; Footprint: Oscillator:Oscillator_SMD_SeikoEpson_SG8002LB-4Pin_5.0x3.2mm; Datasheet: https://support.epson.biz/td/api/doc_check.php?dl=brief_SG-8002LB&lang=en; Description_: CMOS Clock Oscillator 1 to 125 MHz
pins: 1 OE, 2 GND, 3 OUT, 4 Vcc

## Si512A_2.5x3.2mm
designator *  value Si512A_2.5x3.2mm  Reference: Y
Dual frequency crystal oscillator (XO) 100 kHz to 250 MHz, Single-ended CMOS output; ki_fp_filters: Oscillator*SMD*Silicon*Labs*LGA*2.5x3.2mm*P1.25mm*; Footprint: Oscillator:Oscillator_SMD_Silicon_Labs_LGA-6_2.5x3.2mm_P1.25mm; Datasheet: https://www.silabs.com/documents/public/data-sheets/si512-13.pdf; Description_: Dual frequency crystal oscillator (XO) 100 kHz to 250 MHz, Single-ended CMOS output; ki_keywords: Dual frequency crystal oscillator
pins: 1 FS, 2 OE, 3 GND, 4 CLK, 5 NC, 6 VDD

## Si513A_2.5x3.2mm
designator *  value Si513A_2.5x3.2mm  Reference: Y
Dual frequency crystal oscillator (XO) 100 kHz to 250 MHz, Single-ended CMOS output; ki_fp_filters: Oscillator*SMD*Silicon*Labs*LGA*2.5x3.2mm*P1.25mm*; Footprint: Oscillator:Oscillator_SMD_Silicon_Labs_LGA-6_2.5x3.2mm_P1.25mm; Datasheet: https://www.silabs.com/documents/public/data-sheets/si512-13.pdf; Description_: Dual frequency crystal oscillator (XO) 100 kHz to 250 MHz, Single-ended CMOS output; ki_keywords: Dual frequency crystal oscillator
pins: 1 OE, 2 FS, 3 GND, 4 CLK, 5 NC, 6 VDD

## Si570
designator *  value Si570  Reference: Y
10 MHZ TO 1.4 GHZ I2C PROGRAMMABLE XO/VCXO; ki_fp_filters: Oscillator*SI570*SI571*; Footprint: Oscillator:Oscillator_SMD_SI570_SI571_Standard; Datasheet: http://www.silabs.com/Support%20Documents/TechnicalDocs/si570.pdf; Description_: 10 MHZ TO 1.4 GHZ I2C PROGRAMMABLE XO/VCXO; ki_keywords: 10 MHZ TO 1.4 GHZ I2C PROGRAMMABLE XO/VCXO
pins: 1 NC, 2 OE, 3 GND, 4 CLK+, 5 CLK-, 6 Vcc, 7 SDA, 8 SCL

## Si571
designator *  value Si571  Reference: Y
10 MHZ TO 1.4 GHZ I2C PROGRAMMABLE XO/VCXO; ki_fp_filters: Oscillator*SI570*SI571*; Footprint: Oscillator:Oscillator_SMD_SI570_SI571_Standard; Datasheet: http://www.silabs.com/Support%20Documents/TechnicalDocs/si570.pdf; Description_: 10 MHZ TO 1.4 GHZ I2C PROGRAMMABLE XO/VCXO; ki_keywords: 10 MHZ TO 1.4 GHZ I2C PROGRAMMABLE XO/VCXO
pins: 1 Vc, 2 OE, 3 GND, 4 CLK+, 5 CLK-, 6 Vcc, 7 SDA, 8 SCL

## Si5351A-B-GM
designator *  value Si5351A-B-GM  Reference: Y
I2C Programmable Any-Frequency CMOS Clock Generator, QFN-20; ki_keywords: CMOS Synth Oscillator I2C; ki_fp_filters: QFN*1EP*4x4mm*P0.5mm*; Footprint: Package_DFN_QFN:QFN-20-1EP_4x4mm_P0.5mm_EP2.7x2.7mm; Datasheet: https://www.silabs.com/documents/public/data-sheets/Si5351-B.pdf; Description_: I2C Programmable Any-Frequency CMOS Clock Generator, QFN-20
pins: 1 XA, 2 XB, 3 A0, 4 SCL, 5 SDA, 6 SSEN, 7 OEB, 8 CLK3, 9 CLK2, 10 VDDOB, 11 VDDOA, 12 CLK1, 13 CLK0, 14 VDDOD, 15 CLK7, 16 CLK6, 17 CLK5, 18 VDDOC, 19 CLK4, 20 VDD, 21 GND

## Si5351A-B-GT
designator *  value Si5351A-B-GT  Reference: Y
I2C Programmable Any-Frequency CMOS Clock Generator, MSOP-8; ki_keywords: CMOS Synth Oscillator I2C; ki_fp_filters: MSOP*3x3mm*P0.5mm*; Footprint: Package_SO:MSOP-10_3x3mm_P0.5mm; Datasheet: https://www.silabs.com/documents/public/data-sheets/Si5351-B.pdf; Description_: I2C Programmable Any-Frequency CMOS Clock Generator, MSOP-8
pins: 1 VDD, 2 XA, 3 XB, 4 SCL, 5 SDA, 6 CLK2, 7 VDDO, 8 GND, 9 CLK1, 10 CLK0

## Si5351B-B-GM
designator *  value Si5351B-B-GM  Reference: Y
I2C Programmable Any-Frequency CMOS Clock Generator + VCXO, QFN-20; ki_keywords: CMOS Synth Oscillator I2C VCXO; ki_fp_filters: QFN*1EP*4x4mm*P0.5mm*; Footprint: Package_DFN_QFN:QFN-20-1EP_4x4mm_P0.5mm_EP2.7x2.7mm; Datasheet: https://www.silabs.com/documents/public/data-sheets/Si5351-B.pdf; Description_: I2C Programmable Any-Frequency CMOS Clock Generator + VCXO, QFN-20
pins: 1 XA, 2 XB, 3 VC, 4 SCL, 5 SDA, 6 SSEN, 7 OEB, 8 CLK3, 9 CLK2, 10 VDDOB, 11 VDDOA, 12 CLK1, 13 CLK0, 14 VDDOD, 15 CLK7, 16 CLK6, 17 CLK5, 18 VDDOC, 19 CLK4, 20 VDD, 21 GND

## Si5351C-B-GM
designator *  value Si5351C-B-GM  Reference: Y
I2C Programmable Any-Frequency CMOS Clock Generator, QFN-20; ki_keywords: CMOS Synth Oscillator I2C; ki_fp_filters: QFN*1EP*4x4mm*P0.5mm*; Footprint: Package_DFN_QFN:QFN-20-1EP_4x4mm_P0.5mm_EP2.7x2.7mm; Datasheet: https://www.silabs.com/documents/public/data-sheets/Si5351-B.pdf; Description_: I2C Programmable Any-Frequency CMOS Clock Generator, QFN-20
pins: 1 XA, 2 XB, 3 INTR, 4 SCL, 5 SDA, 6 CLKIN, 7 OEB, 8 CLK3, 9 CLK2, 10 VDDOB, 11 VDDOA, 12 CLK1, 13 CLK0, 14 VDDOD, 15 CLK7, 16 CLK6, 17 CLK5, 18 VDDOC, 19 CLK4, 20 VDD, 21 GND

## SiT8008xx-1x-xxE
designator *  value SiT8008xx-1x-xxE  Reference: Y
SiTime Low Power Mems programmable oscillator, 1MHz to 110MHz, PQFN-4, 2.5x2.0mm (with output enable pin); ki_fp_filters: *PQFN*2.5x2.0mm*; Footprint: Oscillator:Oscillator_SMD_SiT_PQFN-4Pin_2.5x2.0mm; Datasheet: https://www.sitime.com/support/resource-library/datasheets/sit8008-datasheet; Description_: SiTime Low Power Mems programmable oscillator, 1MHz to 110MHz, PQFN-4, 2.5x2.0mm (with output enable pin); ki_keywords: Mems
pins: 1 OE, 2 GND, 3 OUT, 4 Vdd

## SiT8008xx-1x-xxN
designator *  value SiT8008xx-1x-xxN  Reference: Y
SiTime Low Power Mems programmable oscillator, 1MHz to 110MHz, PQFN-4, 2.5x2.0mm (with NC pin); ki_fp_filters: *PQFN*2.5x2.0mm*; Footprint: Oscillator:Oscillator_SMD_SiT_PQFN-4Pin_2.5x2.0mm; Datasheet: https://www.sitime.com/support/resource-library/datasheets/sit8008-datasheet; Description_: SiTime Low Power Mems programmable oscillator, 1MHz to 110MHz, PQFN-4, 2.5x2.0mm (with NC pin); ki_keywords: Mems
pins: 1 NC, 2 GND, 3 OUT, 4 Vdd

## SiT8008xx-1x-xxS
designator *  value SiT8008xx-1x-xxS  Reference: Y
SiTime Low Power Mems programmable oscillator, 1MHz to 110MHz, PQFN-4, 2.5x2.0mm (with standby pin); ki_keywords: Mems oscillator; ki_fp_filters: *PQFN*2.5x2.0mm*; Footprint: Oscillator:Oscillator_SMD_SiT_PQFN-4Pin_2.5x2.0mm; Datasheet: https://www.sitime.com/support/resource-library/datasheets/sit8008-datasheet; Description_: SiTime Low Power Mems programmable oscillator, 1MHz to 110MHz, PQFN-4, 2.5x2.0mm (with standby pin)
pins: 1 ~{{ST}}, 2 GND, 3 OUT, 4 Vdd

## SiT8008xx-2x-xxE
designator *  value SiT8008xx-2x-xxE  Reference: Y
SiTime Low Power Mems programmable oscillator, 1MHz to 110MHz, PQFN-4, 3.2x2.5mm (with output enable pin); ki_fp_filters: *PQFN*3.2x2.5mm*; Footprint: Oscillator:Oscillator_SMD_SiT_PQFN-4Pin_3.2x2.5mm; Datasheet: https://www.sitime.com/support/resource-library/datasheets/sit8008-datasheet; Description_: SiTime Low Power Mems programmable oscillator, 1MHz to 110MHz, PQFN-4, 3.2x2.5mm (with output enable pin); ki_keywords: Mems
pins: 1 OE, 2 GND, 3 OUT, 4 Vdd

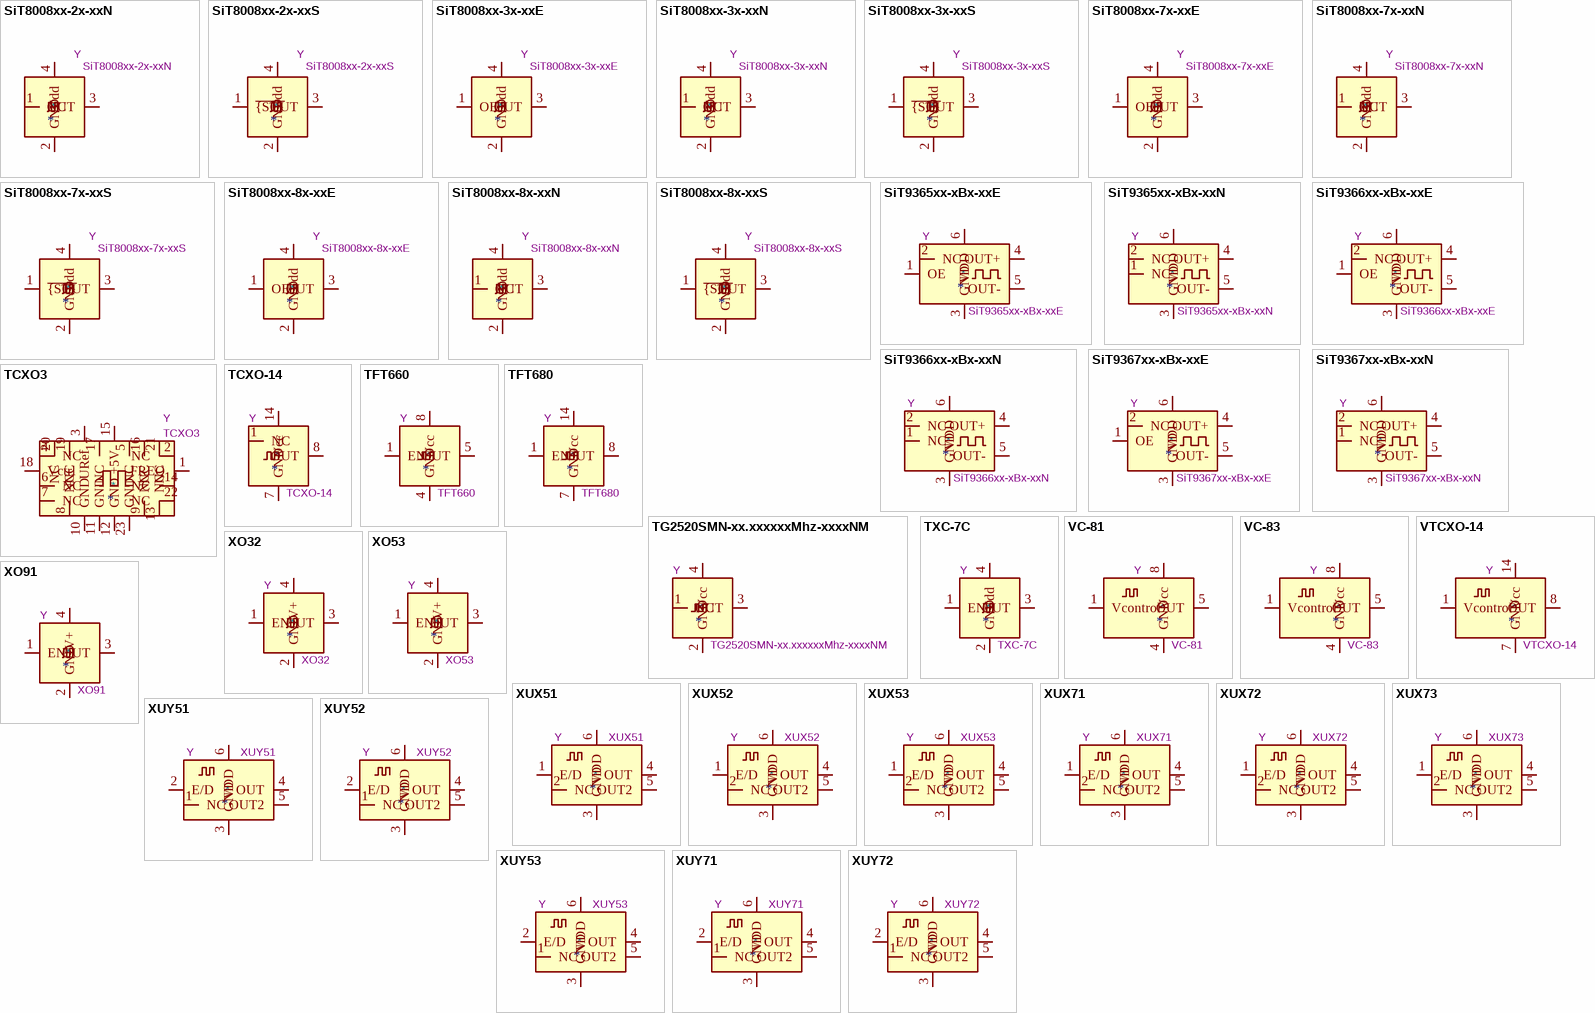
[diagram p2: symbols SiT8008xx-2x-xxN to XUY72]

## SiT8008xx-2x-xxN
designator *  value SiT8008xx-2x-xxN  Reference: Y
SiTime Low Power Mems programmable oscillator, 1MHz to 110MHz, PQFN-4, 3.2x2.5mm (with NC pin); ki_fp_filters: *PQFN*3.2x2.5mm*; Footprint: Oscillator:Oscillator_SMD_SiT_PQFN-4Pin_3.2x2.5mm; Datasheet: https://www.sitime.com/support/resource-library/datasheets/sit8008-datasheet; Description_: SiTime Low Power Mems programmable oscillator, 1MHz to 110MHz, PQFN-4, 3.2x2.5mm (with NC pin); ki_keywords: Mems
pins: 1 NC, 2 GND, 3 OUT, 4 Vdd

## SiT8008xx-2x-xxS
designator *  value SiT8008xx-2x-xxS  Reference: Y
SiTime Low Power Mems programmable oscillator, 1MHz to 110MHz, PQFN-4, 3.2x2.5mm (with standby pin); ki_keywords: Mems oscillator; ki_fp_filters: *PQFN*3.2x2.5mm*; Footprint: Oscillator:Oscillator_SMD_SiT_PQFN-4Pin_3.2x2.5mm; Datasheet: https://www.sitime.com/support/resource-library/datasheets/sit8008-datasheet; Description_: SiTime Low Power Mems programmable oscillator, 1MHz to 110MHz, PQFN-4, 3.2x2.5mm (with standby pin)
pins: 1 ~{{ST}}, 2 GND, 3 OUT, 4 Vdd

## SiT8008xx-3x-xxE
designator *  value SiT8008xx-3x-xxE  Reference: Y
SiTime Low Power Mems programmable oscillator, 1MHz to 110MHz, PQFN-4, 5.0x3.2mm (with output enable pin); ki_fp_filters: *PQFN*5.0x3.2mm*; Footprint: Oscillator:Oscillator_SMD_SiT_PQFN-4Pin_5.0x3.2mm; Datasheet: https://www.sitime.com/support/resource-library/datasheets/sit8008-datasheet; Description_: SiTime Low Power Mems programmable oscillator, 1MHz to 110MHz, PQFN-4, 5.0x3.2mm (with output enable pin); ki_keywords: Mems
pins: 1 OE, 2 GND, 3 OUT, 4 Vdd

## SiT8008xx-3x-xxN
designator *  value SiT8008xx-3x-xxN  Reference: Y
SiTime Low Power Mems programmable oscillator, 1MHz to 110MHz, PQFN-4, 5.0x3.2mm (with NC pin); ki_fp_filters: *PQFN*5.0x3.2mm*; Footprint: Oscillator:Oscillator_SMD_SiT_PQFN-4Pin_5.0x3.2mm; Datasheet: https://www.sitime.com/support/resource-library/datasheets/sit8008-datasheet; Description_: SiTime Low Power Mems programmable oscillator, 1MHz to 110MHz, PQFN-4, 5.0x3.2mm (with NC pin); ki_keywords: Mems
pins: 1 NC, 2 GND, 3 OUT, 4 Vdd

## SiT8008xx-3x-xxS
designator *  value SiT8008xx-3x-xxS  Reference: Y
SiTime Low Power Mems programmable oscillator, 1MHz to 110MHz, PQFN-4, 5.0x3.2mm (with standby pin); ki_fp_filters: *PQFN*5.0x3.2mm*; Footprint: Oscillator:Oscillator_SMD_SiT_PQFN-4Pin_5.0x3.2mm; Datasheet: https://www.sitime.com/support/resource-library/datasheets/sit8008-datasheet; Description_: SiTime Low Power Mems programmable oscillator, 1MHz to 110MHz, PQFN-4, 5.0x3.2mm (with standby pin); ki_keywords: Mems
pins: 1 ~{{ST}}, 2 GND, 3 OUT, 4 Vdd

## SiT8008xx-7x-xxE
designator *  value SiT8008xx-7x-xxE  Reference: Y
SiTime Low Power Mems programmable oscillator, 1MHz to 110MHz, PQFN-4, 2.0x1.6mm (with output enable pin); ki_fp_filters: *PQFN*2.0x1.6mm*; Footprint: Oscillator:Oscillator_SMD_SiT_PQFN-4Pin_2.0x1.6mm; Datasheet: https://www.sitime.com/support/resource-library/datasheets/sit8008-datasheet; Description_: SiTime Low Power Mems programmable oscillator, 1MHz to 110MHz, PQFN-4, 2.0x1.6mm (with output enable pin); ki_keywords: Mems
pins: 1 OE, 2 GND, 3 OUT, 4 Vdd

## SiT8008xx-7x-xxN
designator *  value SiT8008xx-7x-xxN  Reference: Y
SiTime Low Power Mems programmable oscillator, 1MHz to 110MHz, PQFN-4, 2.0x1.6mm (with NC pin); ki_fp_filters: *PQFN*2.0x1.6mm*; Footprint: Oscillator:Oscillator_SMD_SiT_PQFN-4Pin_2.0x1.6mm; Datasheet: https://www.sitime.com/support/resource-library/datasheets/sit8008-datasheet; Description_: SiTime Low Power Mems programmable oscillator, 1MHz to 110MHz, PQFN-4, 2.0x1.6mm (with NC pin); ki_keywords: Mems
pins: 1 NC, 2 GND, 3 OUT, 4 Vdd

## SiT8008xx-7x-xxS
designator *  value SiT8008xx-7x-xxS  Reference: Y
SiTime Low Power Mems programmable oscillator, 1MHz to 110MHz, PQFN-4, 2.0x1.6mm (with standby pin); ki_fp_filters: *PQFN*2.0x1.6mm*; Footprint: Oscillator:Oscillator_SMD_SiT_PQFN-4Pin_2.0x1.6mm; Datasheet: https://www.sitime.com/support/resource-library/datasheets/sit8008-datasheet; Description_: SiTime Low Power Mems programmable oscillator, 1MHz to 110MHz, PQFN-4, 2.0x1.6mm (with standby pin); ki_keywords: Mems
pins: 1 ~{{ST}}, 2 GND, 3 OUT, 4 Vdd

## SiT8008xx-8x-xxE
designator *  value SiT8008xx-8x-xxE  Reference: Y
SiTime Low Power Mems programmable oscillator, 1MHz to 110MHz, PQFN-4, 7.0x5.0mm (with output enable pin); ki_fp_filters: *PQFN*7.0x5.0mm*; Footprint: Oscillator:Oscillator_SMD_SiT_PQFN-4Pin_7.0x5.0mm; Datasheet: https://www.sitime.com/support/resource-library/datasheets/sit8008-datasheet; Description_: SiTime Low Power Mems programmable oscillator, 1MHz to 110MHz, PQFN-4, 7.0x5.0mm (with output enable pin); ki_keywords: Mems
pins: 1 OE, 2 GND, 3 OUT, 4 Vdd

## SiT8008xx-8x-xxN
designator *  value SiT8008xx-8x-xxN  Reference: Y
SiTime Low Power Mems programmable oscillator, 1MHz to 110MHz, PQFN-4, 7.0x5.0mm (with NC pin); ki_fp_filters: *PQFN*7.0x5.0mm*; Footprint: Oscillator:Oscillator_SMD_SiT_PQFN-4Pin_7.0x5.0mm; Datasheet: https://www.sitime.com/support/resource-library/datasheets/sit8008-datasheet; Description_: SiTime Low Power Mems programmable oscillator, 1MHz to 110MHz, PQFN-4, 7.0x5.0mm (with NC pin); ki_keywords: Mems
pins: 1 NC, 2 GND, 3 OUT, 4 Vdd

## SiT8008xx-8x-xxS
designator *  value SiT8008xx-8x-xxS  Reference: Y
SiTime Low Power Mems programmable oscillator, 1MHz to 110MHz, PQFN-4, 7.0x5.0mm (with standby pin); ki_fp_filters: *PQFN*7.0x5.0mm*; Footprint: Oscillator:Oscillator_SMD_SiT_PQFN-4Pin_7.0x5.0mm; Datasheet: https://www.sitime.com/support/resource-library/datasheets/sit8008-datasheet; Description_: SiTime Low Power Mems programmable oscillator, 1MHz to 110MHz, PQFN-4, 7.0x5.0mm (with standby pin); ki_keywords: Mems
pins: 1 ~{{ST}}, 2 GND, 3 OUT, 4 Vdd

## SiT9365xx-xBx-xxE
designator *  value SiT9365xx-xBx-xxE  Reference: Y
SiTime Standard Frequency Ultra-low Jitter Differential Oscillator, 25-325MHz, PQFD-6, 3.2x2.5mm (with enable pin); ki_keywords: LVDS LVPECL HCSL differential MEMS oscillatior; ki_fp_filters: *PQFD*3.2x2.5mm*; Footprint: Oscillator:Oscillator_SMD_SiTime_PQFD-6L_3.2x2.5mm; Datasheet: https://www.sitime.com/datasheet/SiT9365; Description_: SiTime Standard Frequency Ultra-low Jitter Differential Oscillator, 25-325MHz, PQFD-6, 3.2x2.5mm (with enable pin)
pins: 1 OE, 2 NC, 3 GND, 4 OUT+, 5 OUT-, 6 VDD

## SiT9365xx-xBx-xxN
designator *  value SiT9365xx-xBx-xxN  Reference: Y
SiTime Standard Frequency Ultra-low Jitter Differential Oscillator, 25-325MHz, PQFD-6, 3.2x2.5mm; ki_keywords: LVDS LVPECL HCSL differential MEMS oscillatior; ki_fp_filters: *PQFD*3.2x2.5mm*; Footprint: Oscillator:Oscillator_SMD_SiTime_PQFD-6L_3.2x2.5mm; Datasheet: https://www.sitime.com/datasheet/SiT9365; Description_: SiTime Standard Frequency Ultra-low Jitter Differential Oscillator, 25-325MHz, PQFD-6, 3.2x2.5mm
pins: 1 NC, 2 NC, 3 GND, 4 OUT+, 5 OUT-, 6 VDD

## SiT9366xx-xBx-xxE
designator *  value SiT9366xx-xBx-xxE  Reference: Y
SiTime Standard Frequency Ultra-low Jitter Differential Oscillator, 1 MHz and 220MHz, PQFD-6, 3.2x2.5mm (with enable pin); ki_keywords: LVDS LVPECL HCSL differential MEMS oscillatior; ki_fp_filters: *PQFD*3.2x2.5mm*; Footprint: Oscillator:Oscillator_SMD_SiTime_PQFD-6L_3.2x2.5mm; Datasheet: https://www.sitime.com/datasheet/SiT9366; Description_: SiTime Standard Frequency Ultra-low Jitter Differential Oscillator, 1 MHz and 220MHz, PQFD-6, 3.2x2.5mm (with enable pin)
pins: 1 OE, 2 NC, 3 GND, 4 OUT+, 5 OUT-, 6 VDD

## SiT9366xx-xBx-xxN
designator *  value SiT9366xx-xBx-xxN  Reference: Y
SiTime Standard Frequency Ultra-low Jitter Differential Oscillator, 1 MHz and 220MHz, PQFD-6, 3.2x2.5mm; ki_keywords: LVDS LVPECL HCSL differential MEMS oscillatior; ki_fp_filters: *PQFD*3.2x2.5mm*; Footprint: Oscillator:Oscillator_SMD_SiTime_PQFD-6L_3.2x2.5mm; Datasheet: https://www.sitime.com/datasheet/SiT9366; Description_: SiTime Standard Frequency Ultra-low Jitter Differential Oscillator, 1 MHz and 220MHz, PQFD-6, 3.2x2.5mm
pins: 1 NC, 2 NC, 3 GND, 4 OUT+, 5 OUT-, 6 VDD

## SiT9367xx-xBx-xxE
designator *  value SiT9367xx-xBx-xxE  Reference: Y
SiTime Standard Frequency Ultra-low Jitter Differential Oscillator, 220.000001-725MHz, PQFD-6, 3.2x2.5mm (with enable pin); ki_keywords: LVDS LVPECL HCSL differential MEMS oscillatior; ki_fp_filters: *PQFD*3.2x2.5mm*; Footprint: Oscillator:Oscillator_SMD_SiTime_PQFD-6L_3.2x2.5mm; Datasheet: https://www.sitime.com/datasheet/SiT9367; Description_: SiTime Standard Frequency Ultra-low Jitter Differential Oscillator, 220.000001-725MHz, PQFD-6, 3.2x2.5mm (with enable pin)
pins: 1 OE, 2 NC, 3 GND, 4 OUT+, 5 OUT-, 6 VDD

## SiT9367xx-xBx-xxN
designator *  value SiT9367xx-xBx-xxN  Reference: Y
SiTime Standard Frequency Ultra-low Jitter Differential Oscillator, 220.000001-725MHz, PQFD-6, 3.2x2.5mm; ki_keywords: LVDS LVPECL HCSL differential MEMS oscillatior; ki_fp_filters: *PQFD*3.2x2.5mm*; Footprint: Oscillator:Oscillator_SMD_SiTime_PQFD-6L_3.2x2.5mm; Datasheet: https://www.sitime.com/datasheet/SiT9367; Description_: SiTime Standard Frequency Ultra-low Jitter Differential Oscillator, 220.000001-725MHz, PQFD-6, 3.2x2.5mm
pins: 1 NC, 2 NC, 3 GND, 4 OUT+, 5 OUT-, 6 VDD

## TCXO3
designator *  value TCXO3  Reference: Y
Temperature compensated crystal oscillator; Datasheet: http://www.hcelectronics.cz/PDF/TCXO3_A.pdf; Description_: Temperature compensated crystal oscillator; ki_keywords: Temperature compensated crystal oscillator
pins: 1 FREQ, 2 NC, 3 URef, 4 NC, 5 NC, 6 NC, 7 NC, 8 NC, 9 NC, 10 GND, 11 GND, 12 GND, 13 NC, 14 NC, 15 +5V, 16 NC, 17 NC, 18 Vctrl, 19 NC, 20 NC, 21 NC, 22 NC, 23 GND

## TCXO-14
designator *  value TCXO-14  Reference: Y
Temperature Compensated Crystal Clock Oscillator, DIP14-style metal package; ki_fp_filters: Oscillator*DIP*14*; Footprint: Oscillator:Oscillator_DIP-14; Datasheet: http://www.golledge.com/pdf/products/tcxos/gtxos14.pdf; Description_: Temperature Compensated Crystal Clock Oscillator, DIP14-style metal package; ki_keywords: Crystal Clock Oscillator
pins: 1 NC, 7 GND, 8 OUT, 14 Vcc

## TFT660
designator *  value TFT660  Reference: Y
Crystal Clock Oscillator, DIP8-style metal package; ki_fp_filters: Oscillator*DIP*8*; Footprint: Oscillator:Oscillator_DIP-8; Datasheet: http://cdn-reichelt.de/documents/datenblatt/B400/OSZI.pdf; Description_: Crystal Clock Oscillator, DIP8-style metal package; ki_keywords: Crystal Clock Oscillator
pins: 1 EN, 4 GND, 5 OUT, 8 Vcc

## TFT680
designator *  value TFT680  Reference: Y
Crystal Clock Oscillator, DIP14-style metal package; ki_fp_filters: Oscillator*DIP*14*; Footprint: Oscillator:Oscillator_DIP-14; Datasheet: http://cdn-reichelt.de/documents/datenblatt/B400/OSZI.pdf; Description_: Crystal Clock Oscillator, DIP14-style metal package; ki_keywords: Crystal Clock Oscillator
pins: 1 EN, 7 GND, 8 OUT, 14 Vcc

## TG2520SMN-xx.xxxxxxMhz-xxxxNM
designator *  value TG2520SMN-xx.xxxxxxMhz-xxxxNM  Reference: Y
Crystal Oscillator Low Profile / High Stability TCXO; ki_keywords: Crystal Clock Oscillator; ki_fp_filters: Oscillator*SMD*SeikoEpson*TG2520*2.5x2.0mm*; Footprint: Oscillator:Oscillator_SMD_SeikoEpson_TG2520SMN-xxx-xxxxxx-4Pin_2.5x2.0mm; Datasheet: https://support.epson.biz/td/api/doc_check.php?dl=app_TG2520SMN&lang=en; Description_: Crystal Oscillator Low Profile / High Stability TCXO
pins: 1 NC, 2 GND, 3 OUT, 4 Vcc

## TXC-7C
designator *  value TXC-7C  Reference: Y
CMOS SMD Crystal Clock Oscillator, TXC; ki_fp_filters: Oscillator*SMD*TXC*7C*5.0x3.2mm*; Footprint: Oscillator:Oscillator_SMD_TXC_7C-4Pin_5.0x3.2mm; Datasheet: http://www.txccorp.com/download/products/osc/7C_o.pdf; Description_: CMOS SMD Crystal Clock Oscillator, TXC; ki_keywords: CMOS SMD Crystal Clock Oscillator
pins: 1 EN, 2 GND, 3 OUT, 4 Vdd

## VC-81
designator *  value VC-81  Reference: Y
Voltage-Controlled Crystal Clock Oscillator, DIP8-style metal package; ki_fp_filters: Oscillator*DIP*8*; Footprint: Oscillator:Oscillator_DIP-8; Datasheet: http://www.scsiglobal.com/Hosonic/Documents/SCSI-VC-81&83.pdf; Description_: Voltage-Controlled Crystal Clock Oscillator, DIP8-style metal package; ki_keywords: Crystal Clock Oscillator
pins: 1 Vcontrol, 4 GND, 5 OUT, 8 Vcc

## VC-83
designator *  value VC-83  Reference: Y
Voltage-Controlled Crystal Clock Oscillator, DIP8-style metal package; ki_fp_filters: Oscillator*DIP*8*; Footprint: Oscillator:Oscillator_DIP-8; Datasheet: http://www.scsiglobal.com/Hosonic/Documents/SCSI-VC-81&83.pdf; Description_: Voltage-Controlled Crystal Clock Oscillator, DIP8-style metal package; ki_keywords: Crystal Clock Oscillator
pins: 1 Vcontrol, 4 GND, 5 OUT, 8 Vcc

## VTCXO-14
designator *  value VTCXO-14  Reference: Y
Voltage-Controlled Crystal Clock Oscillator, DIP14-style metal package; ki_fp_filters: Oscillator*DIP*14*; Footprint: Oscillator:Oscillator_DIP-14; Datasheet: http://www.golledge.com/pdf/products/tcxos/gtxos14.pdf; Description_: Voltage-Controlled Crystal Clock Oscillator, DIP14-style metal package; ki_keywords: Crystal Clock Oscillator
pins: 1 Vcontrol, 7 GND, 8 OUT, 14 Vcc

## XO32
designator *  value XO32  Reference: Y
HCMOS Clock Oscillator; ki_keywords: Crystal Clock Oscillator; ki_fp_filters: Oscillator*SMD*EuroQuartz*XO32*3.2x2.5mm*; Footprint: Oscillator:Oscillator_SMD_EuroQuartz_XO32-4Pin_3.2x2.5mm; Datasheet: http://cdn-reichelt.de/documents/datenblatt/B400/XO32.pdf; Description_: HCMOS Clock Oscillator
pins: 1 EN, 2 GND, 3 OUT, 4 V+